# Altium footprint library BeagleBoneCape.PcbLib: 16 footprints
Each footprint in its own frame and in the unit in brackets; x right, y up, seen from the top. Pads: shape width x height; smd on the part's side, far side on the other; paste and mask are expansions set on the pad; w line width, h text height; cw(c..) or ccw(c..) is an arc to the next point about the centre after c.
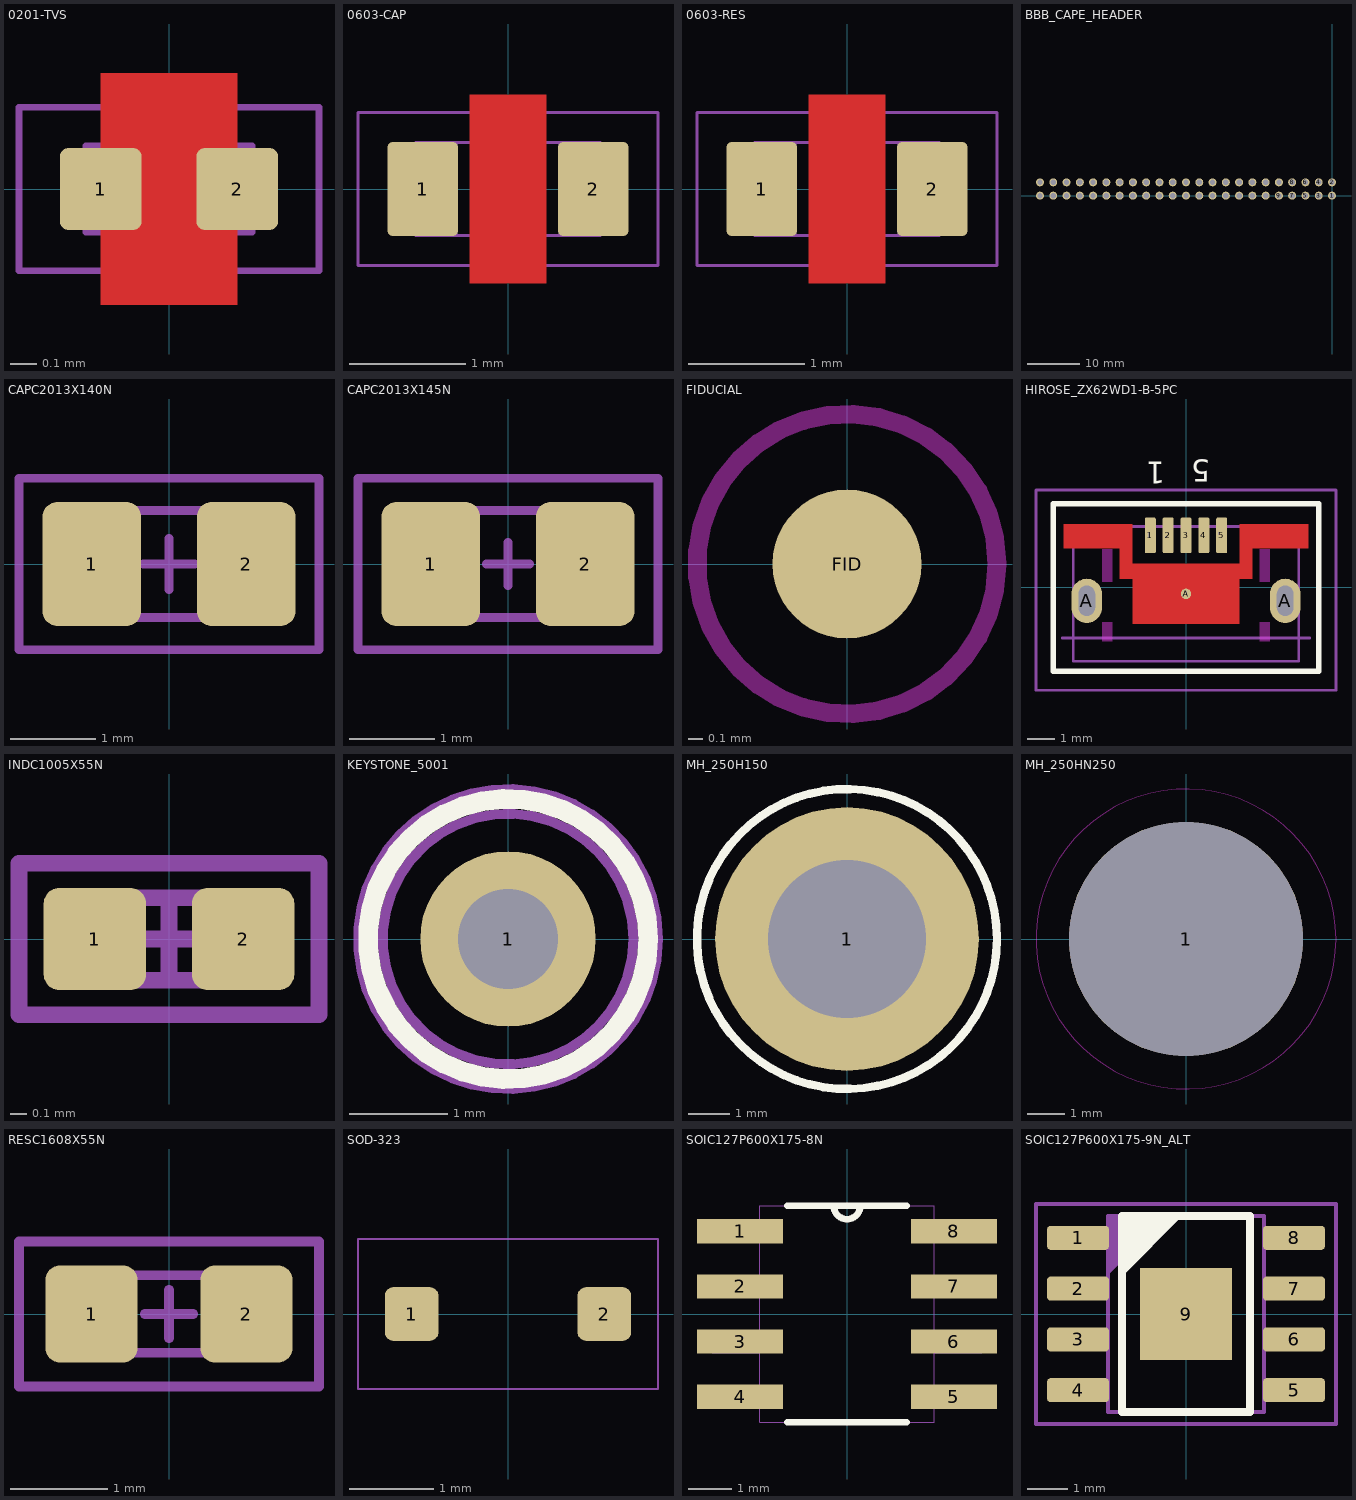
[diagram p0: the footprints below, top view; thin cyan lines are the x and y axes]

## 0201-TVS [mil]
pads (2):
  rrect20% 12x12 smd paste+0 mask+1.5: 1(-10,0) 2(10,0)
Top Layer:
  pour cut-out: -10,-17 -10,17 10,17 10,-17
Top Solder:
  rectangle: -6,-12 6,12
Mechanical 15:
  lines w1: -22,-12 22,-12 22,12 -22,12 -22,-12
Mechanical 16:
  lines w1: -12.2,-6.3 -12.2,6.3 12.2,6.3 12.2,-6.3 -12.2,-6.3
3D body: height 11.43, standoff 11, extent -8,-5 -4,5
3D body: height 11.42, standoff 0.1, extent -12.2,-6.3 12.2,6.3

## 0603-CAP [mil]
pads (2):
  rrect15% 24x32 smd paste-2 mask+2: 1(-29,0) 2(29,0)
Top Layer:
  pour cut-out: -13,32 13,32 13,-32 -13,-32
Top Solder:
  rectangle: -8,-27 8,27
Mechanical 15:
  lines w1: -51,-26 51,-26 51,26 -51,26 -51,-26
Mechanical 16:
  lines w1: -17.72,-15.75 -17.72,15.75 ; 17.72,-15.75 17.72,15.75 ; -31.5,-15.75 -31.5,15.75 31.5,15.75 31.5,-15.75 -31.5,-15.75
3D body: height 30, standoff 0, extent 18,-16 32,16
3D body: height 30, standoff 0, extent -32,-16 -18,16
3D body: height 29.8, standoff 0.2, extent -31.5,-15.75 31.5,15.75

## 0603-RES [mil]
pads (2):
  rrect15% 24x32 smd paste-2 mask+2: 1(-29,0) 2(29,0)
Top Layer:
  pour cut-out: -13,32 13,32 13,-32 -13,-32
Top Solder:
  rectangle: -8,-27 8,27
Mechanical 15:
  lines w1: -51,-26 -51,26 51,26 51,-26 -51,-26
Mechanical 16:
  lines w1: -17.72,-15.75 -17.72,15.75 ; 17.72,-15.75 17.72,15.75 ; -31.5,-15.75 31.5,-15.75 31.5,15.75 -31.5,15.75 -31.5,-15.75
3D body: height 19, standoff 0, extent -32,-15 -18,15
3D body: height 18, standoff 17, extent -31.5,-15.75 31.5,15.75
3D body: height 17, standoff 0.2, extent -31.5,-15.75 31.5,15.75
3D body: height 19, standoff 0, extent 18,-15 32,15

## BBB_CAPE_HEADER [mil]
pads (46):
  round 60 hole 40: 1(0,0) 2(0,100) 3(-100,0) 4(-100,100) 5(-200,0) 6(-200,100) 7(-300,0) 8(-300,100) 9(-400,0) 10(-400,100) 11(-500,0) 12(-500,100) 13(-600,0) 14(-600,100) 15(-700,0) 16(-700,100) 17(-800,0) 18(-800,100) 19(-900,0) 20(-900,100) 21(-1000,0) 22(-1000,100) 23(-1100,0) 24(-1100,100) 25(-1200,0) 26(-1200,100) 27(-1300,0) 28(-1300,100) 29(-1400,0) 30(-1400,100) 31(-1500,0) 32(-1500,100) 33(-1600,0) 34(-1600,100) 35(-1700,0) 36(-1700,100) 37(-1800,0) 38(-1800,100) 39(-1900,0) 40(-1900,100) 41(-2000,0) 42(-2000,100) 43(-2100,0) 44(-2100,100) 45(-2200,0) 46(-2200,100)

## CAPC2013X140N [mm]
pads (2):
  rrect30% 1.15x1.45 smd: 1(-0.9,0) 2(0.9,0)
Mechanical 13:
  lines w0.102: -1,-0.625 -1,0.625 1,0.625 1,-0.625 -1,-0.625
  text ".Designator" at -0.637,-0.33 h1.27
Mechanical 15:
  lines w0.102: -0.3,0 0.3,0 ; 0,-0.3 0,0.3 ; -1.75,-1 -1.75,1 1.75,1 1.75,-1 -1.75,-1
3D body: height 1.4, standoff 0, extent -0.5,-0.625 0.5,0.625
3D body: height 1.4, standoff 0, extent 0.5,-0.625 1,0.625
3D body: height 1.4, standoff 0, extent -1,-0.625 -0.5,0.625

## CAPC2013X145N [mm]
pads (2):
  rrect30% 1.15x1.45 smd: 1(-0.9,0) 2(0.9,0)
Mechanical 13:
  lines w0.102: -1,-0.625 1,-0.625 1,0.625 -1,0.625 -1,-0.625
  text ".Designator" at -0.973,-0.381 h1.27
Mechanical 15:
  lines w0.102: -0.25,0 0.25,0 ; 0,-0.25 0,0.25 ; -1.75,-1 1.75,-1 1.75,1 -1.75,1 -1.75,-1
3D body: height 1.45, standoff 0, extent -1,-0.625 -0.5,0.625
3D body: height 1.45, standoff 0, extent 0.5,-0.625 1,0.625
3D body: height 1.45, standoff 0, extent -0.5,-0.625 0.5,0.625

## FIDUCIAL [mil]
pads (1):
  round 40 smd paste-500 mask+20: FID(0,0)
Top Layer keep-out:
  circle w5: c0,0 r40.3

## HIROSE_ZX62WD1-B-5PC [mm]
pads (8):
  rrect30% 0.4x1.3 smd mask+0.051: 1(-1.3,1.891) 2(-0.65,1.891) 3(0,1.891) 4(0.65,1.891) 5(1.3,1.891)
  oval 1.108x1.608 hole 1.1 slot 0.6 at 0 deg mask+0.051: A(-3.61,-0.489) A(3.61,-0.489)
  round 0.381 smd mask+0.051: A(0,-0.239)
Top Layer:
  region: 4.457,1.411 4.457,2.311 1.95,2.311 1.95,1.411
  region: 2.032,0.311 2.032,0.861 -2.425,0.861 -2.425,0.311
  region: 1.95,-1.339 1.95,0.861 -1.95,0.861 -1.95,-1.339
  region: -1.95,0.311 -1.95,2.311 -2.425,2.311 -2.425,0.311
  region: 2.425,0.311 2.425,2.311 1.95,2.311 1.95,0.311
  region: -1.95,1.411 -1.95,2.311 -4.457,2.311 -4.457,1.411
  region: -4.318,2.809
Top Layer keep-out:
  rectangle: -3.048,0.193 -2.667,1.397
  region: 3.048,1.397 2.667,1.397 2.667,0.193 3.048,0.193
  rectangle: -3.048,-1.966 -2.667,-1.255
  region: 3.048,-1.255 2.667,-1.255 2.667,-1.966 3.048,-1.966
Top Overlay:
  lines w0.203: -4.826,-3.048 -4.826,3.048 4.826,3.048 4.826,-3.048 -4.826,-3.048
  text "1" at -0.762,4.562 h0.8
  text "5" at 0.889,4.638 h0.8
Top Paste:
  region: 4.191,1.651 4.191,2.047 2.425,2.047 2.425,1.651
  region: -2.425,1.651 -2.425,2.047 -4.191,2.047 -4.191,1.651
  region: 1.229,-0.916 1.229,0.438 -1.229,0.438 -1.229,-0.916
  region: -2.001,0.508 -2.001,1.27 -2.286,1.27 -2.286,0.508
  region: 2.286,0.508 2.286,1.27 2.032,1.27 2.032,0.508
Top Solder:
  region: 4.508,1.36 4.508,2.362 1.899,2.362 1.899,1.36
  region: -1.899,0.26 -1.899,2.362 -2.475,2.362 -2.475,0.26
  region: -1.899,1.36 -1.899,2.362 -4.508,2.362 -4.508,1.36
  region: 2.001,-1.39 2.001,0.912 -2.001,0.912 -2.001,-1.39
  region: 2.476,0.26 2.476,2.362 1.899,2.362 1.899,0.26
Mechanical 13:
  lines w0.1: -4.1,-2.689 -4.1,2.211 4.1,2.211 4.1,-2.689 -4.1,-2.689
  text "1" at -1.117,1.984 h1.02
  text ".Designator" at 2.032,0.447 h3.05
Mechanical 15:
  lines w0.1: -0.508,0 0.508,0 ; 0,-0.508 0,0.508 ; -5.457,-3.739 -5.457,3.541 5.457,3.541 5.457,-3.739 -5.457,-3.739
Mechanical 30:
  lines w0.102: -4.5,-1.839 4.5,-1.839
  text "PCB EDGE" at -3.175,-3.316 h1.02
3D body "ZX62WD1-B-5PC.stp": height 3, standoff -0.67, extent -4.1,-2.664 4.1,2.336

## INDC1005X55N [mm]
pads (2):
  rrect30% 0.62x0.62 smd: 1(-0.45,0) 2(0.45,0)
Mechanical 13:
  lines w0.102: -0.5,-0.25 0.5,-0.25 0.5,0.25 -0.5,0.25 -0.5,-0.25
  text ".Designator" at 0.285,0.912 h0.51
Mechanical 15:
  lines w0.102: -0.25,0 0.25,0 ; 0,-0.25 0,0.25 ; -0.91,-0.46 0.91,-0.46 0.91,0.46 -0.91,0.46 -0.91,-0.46
3D body: height 0.55, standoff 0, extent -0.5,-0.25 -0.3,0.25
3D body: height 0.55, standoff 0, extent 0.3,-0.25 0.5,0.25
3D body: height 0.55, standoff 0, extent -0.3,-0.25 0.3,0.25

## KEYSTONE_5001 [mil]
pads (1):
  round 70 hole 40: 1(0,0)
Top Overlay:
  circle w7.87: c0,0 r55.9
Mechanical 13:
  circle w4: c0,0 r50
  text ".Designator" at -15.64,36.21 h50
Mechanical 15:
  circle w4: c0,0 r59.84
3D body: height 185, standoff 0, extent -49.98,-49.98 49.98,49.98

## MH_250H150 [mil]
pads (1):
  round 250 / inner round 60 / far side round 250 hole 150: 1(0,0)
Top Overlay:
  circle w8: c0,0 r142.3
Mechanical 13:
  text ".Designator" at -78.31,-21 h70
3D body: height 150, standoff 0, extent -192.71,-192.71 192.71,192.71

## MH_250HN250 [mil]
pads (1):
  round 250 / inner round 60 / far side round 250 hole 250 unplated: 1(0,0)
Mechanical 13:
  text ".Designator" at -99.83,-27 h90
Multi-Layer keep-out:
  circle w1: c0,0 r160
  circle w1: c0,0 r160

## RESC1608X55N [mm]
pads (2):
  rrect30% 0.95x1 smd: 1(-0.8,0) 2(0.8,0)
Mechanical 13:
  lines w0.102: -0.8,-0.4 0.8,-0.4 0.8,0.4 -0.8,0.4 -0.8,-0.4
  text ".Designator" at -0.533,-0.279 h0.76
Mechanical 15:
  lines w0.102: -0.25,0 0.25,0 ; 0,-0.25 0,0.25 ; -1.55,-0.75 1.55,-0.75 1.55,0.75 -1.55,0.75 -1.55,-0.75
3D body: height 0.55, standoff 0, extent -0.8,-0.4 -0.45,0.4
3D body: height 0.55, standoff 0, extent 0.45,-0.4 0.8,0.4
3D body: height 0.55, standoff 0, extent -0.45,-0.4 0.45,0.4

## SOD-323 [mil]
pads (2):
  rrect30% 25x25 smd paste+1.5: 1(-45,0) 2(45,0)
Top Solder:
  rectangle: -15,-15 -5,15
  region: -10,0 15,15 15,-15
Mechanical 15:
  lines w1: -70,-35 -70,35 70,35 70,-35 -70,-35
3D body: height 36, standoff 35, extent -25,-25 -15,25
3D body: height 7, standoff 0, extent 40,-6 50,6
3D body: height 20, standoff 0, extent 28.35,-6 40,6
3D body: height 35, standoff 0, extent -35,-25 35,25
3D body: height 20, standoff 0, extent -40,-6 -28.35,6
3D body: height 7, standoff 0, extent -50,-6 -40,6

## SOIC127P600X175-8N [mil]
pads (8):
  rect 78x22 smd: 1(-97,75) 2(-97,25) 3(-97,-25) 4(-97,-75) 5(97,-75) 6(97,-25) 7(97,25) 8(97,75)
Top Overlay:
  lines w6: -54,-98 54,-98 ; -54,98 -12,98 ; 54,98 12,98 ; -12,98 ccw(c0,98) 12,98 ; -12,98 12,98
Mechanical 13:
  lines w0: -12,98 ccw(c0,98) 12,98 ; -12,98 -79,98 -79,-98 79,-98 79,98 12,98 ; -12,98 12,98 ; -122,-85 -79,-85 -79,-65 -122,-65 -122,-85 ; -122,-35 -79,-35 -79,-15 -122,-15 -122,-35 ; -122,15 -79,15 -79,35 -122,35 -122,15 ; -122,65 -79,65 -79,85 -122,85 -122,65 ; 79,-85 122,-85 122,-65 79,-65 79,-85 ; 79,-35 122,-35 122,-15 79,-15 79,-35 ; 79,15 122,15 122,35 79,35 79,15 ; 79,65 122,65 122,85 79,85 79,65

## SOIC127P600X175-9N_ALT [mm]
pads (9):
  rrect30% 1.55x0.6 smd: 1(-2.7,1.905) 2(-2.7,0.635) 3(-2.7,-0.635) 4(-2.7,-1.905) 5(2.7,-1.905) 6(2.7,-0.635) 7(2.7,0.635) 8(2.7,1.905)
  rect 2.29x2.29 smd paste-25.4: 9(0,0)
Top Overlay:
  region: -1.6,2.45 -0.09,2.45 -1.6,0.94
  lines w0.203: -1.6,-2.449 -1.6,2.45 1.6,2.45 1.6,-2.449 -1.6,-2.449
  text "." at -2.794,2.667 h0.05
Top Paste:
  rectangle: -0.807,-0.635 0.807,0.762
Mechanical 13:
  region: -1.95,0.971 -0.471,2.45 -1.95,2.45
  lines w0.102: -1.95,-2.45 -1.95,2.45 1.95,2.45 1.95,-2.45 -1.95,-2.45
  text ".Designator" at -1.473,-0.914 h3.05
Mechanical 15:
  lines w0.102: -0.5,0 0.5,0 ; 0,-0.5 0,0.5 ; -3.75,-2.75 -3.75,2.75 3.75,2.75 3.75,-2.75 -3.75,-2.75
3D body "SOIC127P600X175-8N.step": height 1.75, standoff 0, extent -3,-2.45 3,2.45